# EAGLE library part ESP8266-12-2 (library stutz-components-library)
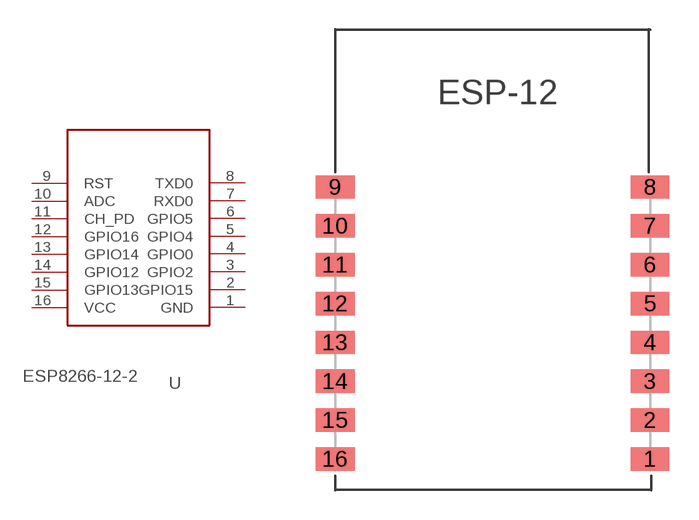
[diagram p26: symbol with the pads of ESP8266-12-2; footprint ESP8266-12-2]

Designator prefix -

## ESP8266-12-2  [ESP8266-12-2]
1  GND  pwr
2  GPIO15
3  GPIO2
4  GPIO0
5  GPIO4
6  GPIO5
7  RXD0  in
8  TXD0  out
9  RST  in
10  ADC  in
11  CH_PD  in
12  GPIO16
13  GPIO14
14  GPIO12
15  GPIO13
16  VCC  pwr

## Footprint ESP8266-12-2 (pad centres in mm)
smd 2 x 1.2: 1 7.818,-8.922; 2 7.818,-6.922; 3 7.818,-4.922; 4 7.818,-2.922; 5 7.818,-0.922; 6 7.818,1.078; 7 7.818,3.078; 8 7.818,5.078; 9 -8.382,5.078; 10 -8.382,3.078; 11 -8.382,1.078; 12 -8.382,-0.922; 13 -8.382,-2.922; 14 -8.382,-4.922; 15 -8.382,-6.922; 16 -8.382,-8.922